# Altium schematic symbol library SCH - POWER - SWITCHMODE - TI TPS628681ARQY.SchLib: 1 symbol
Pins are listed as number, name and electrical type; pins without a type are passive.

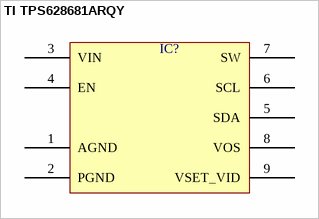
[diagram p0: symbol TI TPS628681ARQY]

## TI TPS628681ARQY
designator IC?  (value not drawn)
pins: 1 AGND, 2 PGND, 3 VIN, 4 EN, 5 SDA, 6 SCL, 7 SW, 8 VOS, 9 VSET_VID